# Altium integrated library ST Microcontroller 32-Bit.IntLib: 27 symbols (part 5 of 5)
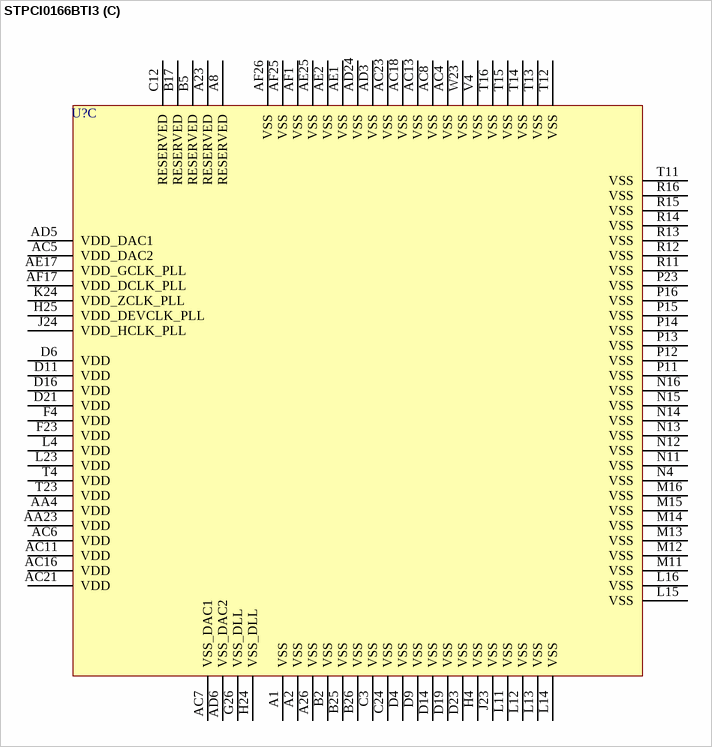
[diagram p67: symbol STPCI0166BTI3]

## STPCI0166BTI3
designator U?
STPCI01 PC Compatible Embedded Microprocessor, 66 MHz Core Speed, 388-Pin PBGA, Industrial; Published: 26-May-2004; LatestRevisionDate: 6-Jun-2005; LatestRevisionNote: Stylized 3D Model Added.; DatasheetDocument: Issue 2.4, 11-Feb-2002; PackageDocument: Oct-2000; PackageReference: PBGA388; Publisher: Altium Limited; ComponentLink1Description: Manufacturer Link; ComponentLink1URL: http://www.st.com/
footprint PBGA388 (BGA, Plastic; 388 Balls; Body 35 x 35 mm; Pitch 1.27 mm)
3D model STPCI01-PBGA388 (BGA, Plastic; 388 Balls; Body 35 x 35 mm; Pitch 1.27 mm)
part A pins: A5 D[13] (io), A6 D[11] (io), A7 D[8] (io), A9 D[3] (io), A10 A[25] (out), A11 A[21] (out), A12 A[19] (out), A13 A[15] (out), A14 A[11] (out), A15 A[7] (out), A16 A[5] (out), A17 A[1] (out), A18 BVD1 (in), A19 VS2# (in), A21 READY# (in), A22 VPP_VCC (power), A24 CD2# (in), A25 INPACK# (in), AA24 MD[23] (io), AA25 MD[21] (io), AA26 MD[24] (io), AB24 MD[19] (io), AB26 MD[20] (io), AC12 MA[1] (out), AC14 MA[5] (out), AC17 RAS#[2] (out), AC19 CAS#[6] (out), AC20 MD[1] (io), AC22 MD[8] (io), AC24 MD[18] (io), AC25 MD[17] (io), AD12 MA[3] (out), AD13 MA[7] (out), AD14 MA[9] (out), AD15 RAS#[0] (out), AD17 CAS#[0] (out), AD18 CAS#[4] (out), AD19 MWE# (out), AD20 MD[3] (io), AD21 MD[6] (io), AD22 MD[10] (io), AD23 MD[12] (io), AD25 MD[15] (io), AD26 MD[16] (io), AE13 MA[0] (out), AE14 MA[4] (out), AE15 MA[8] (out), AE16 MA[11] (out), AE18 RAS#[3] (out), AE19 CAS#[2] (out), AE20 CAS#[5] (out), AE21 MD[0] (io), AE22 MD[4] (io), AE23 MD[7] (io), AE24 MD[11] (io), AE26 MD[14] (io), AF13 MA[2] (out), AF14 MA[6] (out), AF15 MA[10] (out), AF16 RAS#[1] (out), AF18 CAS#[1] (out), AF19 CAS#[3] (out), AF20 CAS#[7] (out), AF21 MD[2] (io), AF22 MD[5] (io), AF23 MD[9] (io), AF24 MD[13] (io), B4 D[15] (io), B6 D[9] (io), B7 D[6] (io), B8 D[4] (io), B9 D[1] (io), B10 A[23] (out), B11 A[20] (out), B12 A[17] (out), B13 A[13] (out), B14 A[9] (out), B15 A[6] (out), B16 A[3] (out), B18 WE# (out), B19 REG# (out), B21 VPP_PGM (power), B22 IORD# (out), B23 CE1# (out), B24 CD1# (in), C6 D[14] (io), C7 D[12] (io), C9 D[5] (io), C10 D[2] (io), C11 A[24] (out), C13 A[18] (out), C14 A[16] (out), C15 A[12] (out), C16 A[8] (out), C17 A[4] (out), C18 A[0] (out), C19 WAIT# (in), C20 VS1# (in), C21 VCC3_EN (power), C22 OE# (out), C23 CE2# (out), C26 BVD2 (in), D7 D[10] (io), D8 D[7] (io), D10 D[0] (io), D12 A[22] (out), D13 A[14] (out), D15 A[10] (out), D17 A[2] (out), D18 RESET (out), D20 VCC5_EN (power), D22 IOWR# (out), D24 WP (in), J25 MD[63] (io), K23 MD[62] (io), K25 MD[59] (io), K26 MD[61] (io), L24 MD[60] (io), L25 MD[55] (io), L26 MD[57] (io), M23 MD[58] (io), M24 MD[56] (io), M25 MD[52] (io), M26 MD[54] (io), N23 MD[49] (io), N24 MD[53] (io), N25 MD[48] (io), N26 MD[50] (io), P24 MD[51] (io), P25 MD[44] (io), P26 MD[46] (io), R23 MD[45] (io), R24 MD[47] (io), R25 MD[41] (io), R26 MD[42] (io), T24 MD[43] (io), T25 MD[38] (io), T26 MD[40] (io), U23 MD[37] (io), U24 MD[39] (io), U25 MD[34] (io), U26 MD[36] (io), V23 MD[29] (io), V24 MD[35] (io), V25 MD[32] (io), V26 MD[33] (io), W24 MD[31] (io), W25 MD[28] (io), W26 MD[30] (io), Y23 MD[22] (io), Y24 MD[27] (io), Y25 MD[25] (io), Y26 MD[26] (io)
part B pins: A3 SYSRSTO# (out), A4 IRQ_MUX[1] (in), A20 ISA_CLK2X (out), AA1 RI2# (in), AA2 TC/SOUT2 (out), AA3 IOW#/ERR# (io), AB1 IOR#/BUSY# (io), AB2 IOCHRDY/SLCT (in), AB3 IOCS16#/INIT# (io), AB4 MCS16#/PDDIR# (io), AB23 XTALO (out), AB25 XTALI (in), AC1 STROBE# (out), AC2 MASTER#/ACK# (in), AC3 AEN/SLCTIN# (out), AC9 G[3] (out), AC10 RESERVED, AC15 GCLK2X (io), AC26 CLK14M (out), AD1 SPKRD (out), AD2 REF#/AUTPFDX# (io), AD4 RED (out), AD7 R[2] (out), AD8 B[4] (out), AD9 G[5] (out), AD10 FPLINE (out), AD11 PWM (out), AD16 DCLK (io), AE3 SDA/DDC[1] (io), AE4 HSYNC (io), AE5 BLUE (out), AE6 RSET (in), AE7 B[2] (out), AE8 B[3] (out), AE9 G[4] (out), AE10 B[5] (out), AE11 FPFRAME (out), AE12 ENAVDD (out), AF2 SCL/DDC[0] (io), AF3 VSYNC (io), AF4 GREEN (out), AF5 VREF_DAC (in), AF6 COMP (in), AF7 G[2] (out), AF8 R[3] (out), AF9 R[4] (out), AF10 R[5] (out), AF11 DE (out), AF12 ENVCC (out), B1 PA[0] (out), B3 IRQ_MUX[3] (in), B20 ISA_CLK (out), C1 LA[20]/PA[20] (out), C2 LA[21]/PA[21] (out), C4 SYSRSTI# (in), C5 IRQ_MUX[2] (in), C8 SCAN_ENABLE (in), C25 PPD[0] (io), D1 SA[17]/PA[17] (out), D2 SA[19]/PA[19] (out), D3 SA[18]/PA[18] (out), D5 IRQ_MUX[0] (in), D25 RTCDS#/PPD[4] (io), D26 RMRTCCS#/PPD[2] (io), E1 SA[13]/PA[13] (out), E2 SA[16]/PA[16] (out), E3 SA[14]/PA[14] (out), E4 SA[15]/PA[15] (out), E23 RTCAS#/PPD[3] (io), E24 ALE/PPD[1] (io), E25 IOCHCK#/PPD[7] (io), E26 PPD[6] (io), F1 SA[9]/PA[9] (out), F2 SA[12]/PA[12] (out), F3 SA[10]/PA[10] (out), F24 RTCRW#/PPD[5] (io), F25 KBCLK (out), F26 KBDATA (in), G1 SA[7]/PA[7] (out), G2 SA[8]/PA[8] (out), G3 SA[6]/PA[6] (out), G4 SA[11]/PA[11] (out), G23 MDATA (in), G24 MCLK (out), G25 PCI_CLKI (in), H1 SA[3]/PA[3] (out), H2 SA[5]/PA[5] (out), H3 SA[2]/PA[2] (out), H23 PCI_CLKO (out), H26 HCLK (io), J1 SD[15]/PD[15] (io), J2 SA[1]/PA[1] (out), J3 SD[13]/PD[13] (io), J4 SA[4]/PA[4] (out), J26 DEV_CLK (out), K1 SD[12]/PD[12] (io), K2 SD[14]/PD[14] (io), K3 SD[9]/PD[9] (io), K4 SD[11]/PD[11] (io), L1 SD[8]/PD[8] (io), L2 SD[10]/PD[10] (io), L3 SD[5]/PD[5] (io), M1 SD[6]/PD[6] (io), M2 SD[7]/PD[7] (io), M3 SD[1]/PD[1] (io), M4 SD[3]/PD[3] (io), N1 SD[2]/PD[2] (io), N2 SD[4]/PD[4] (io), N3 LA[18]/PWR#[1] (out), P1 LA[17]/PWR#[0] (out), P2 SD[0]/PD[0] (io), P3 LA[22]/PRD#[1] (out), P4 SA[0]/PRDY# (io), R1 LA[23]/FCS#[0] (out), R2 LA[19]/PRD#[0] (out), R3 MEMR#/IOCS#[3] (io), R4 SMEMR#/IOCS#[1] (out), T1 MEMW#/IOCS#[2] (io), T2 BHE#/FCS#[1] (out), T3 DCD1#/B[0] (io), U1 DSR1#/G[0] (io), U2 SMEMW#/IOCS#[0] (out), U3 RTS1#/G[1] (out), U4 SIN1/R[0] (io), V1 SOUT1/R[1] (out), V2 CTS1/B[1] (io), V3 DACK_ENC[0]/DCD2# (io), W1 RI1# (in), W2 DTR1# (out), W3 DREQ_MUX[1]/RTS2# (io), W4 DACK_ENC[2]/SIN2 (io), Y1 DREQ_MUX[0]/CTS2# (in), Y2 DACK_ENC[1]/DSR2# (io), Y3 GPIOCS#/PE (io), Y4 DTR2# (out)
part C pins: A1 VSS (power), A2 VSS (power), A8 RESERVED, A23 RESERVED, A26 VSS (power), AA4 VDD (power), AA23 VDD (power), AC4 VSS (power), AC5 VDD_DAC2 (power), AC6 VDD (power), AC7 VSS_DAC1 (power), AC8 VSS (power), AC11 VDD (power), AC13 VSS (power), AC16 VDD (power), AC18 VSS (power), AC21 VDD (power), AC23 VSS (power), AD3 VSS (power), AD5 VDD_DAC1 (power), AD6 VSS_DAC2 (power), AD24 VSS (power), AE1 VSS (power), AE2 VSS (power), AE17 VDD_GCLK_PLL (power), AE25 VSS (power), AF1 VSS (power), AF17 VDD_DCLK_PLL (power), AF25 VSS (power), AF26 VSS (power), B2 VSS (power), B5 RESERVED, B17 RESERVED, B25 VSS (power), B26 VSS (power), C3 VSS (power), C12 RESERVED, C24 VSS (power), D4 VSS (power), D6 VDD (power), D9 VSS (power), D11 VDD (power), D14 VSS (power), D16 VDD (power), D19 VSS (power), D21 VDD (power), D23 VSS (power), F4 VDD (power), F23 VDD (power), G26 VSS_DLL (power), H4 VSS (power), H24 VSS_DLL (power), H25 VDD_DEVCLK_PLL (power), J23 VSS (power), J24 VDD_HCLK_PLL (power), K24 VDD_ZCLK_PLL (power), L4 VDD (power), L11 VSS (power), L12 VSS (power), L13 VSS (power), L14 VSS (power), L15 VSS (power), L16 VSS (power), L23 VDD (power), M11 VSS (power), M12 VSS (power), M13 VSS (power), M14 VSS (power), M15 VSS (power), M16 VSS (power), N4 VSS (power), N11 VSS (power), N12 VSS (power), N13 VSS (power), N14 VSS (power), N15 VSS (power), N16 VSS (power), P11 VSS (power), P12 VSS (power), P13 VSS (power), P14 VSS (power), P15 VSS (power), P16 VSS (power), P23 VSS (power), R11 VSS (power), R12 VSS (power), R13 VSS (power), R14 VSS (power), R15 VSS (power), R16 VSS (power), T4 VDD (power), T11 VSS (power), T12 VSS (power), T13 VSS (power), T14 VSS (power), T15 VSS (power), T16 VSS (power), T23 VDD (power), V4 VSS (power), W23 VSS (power)

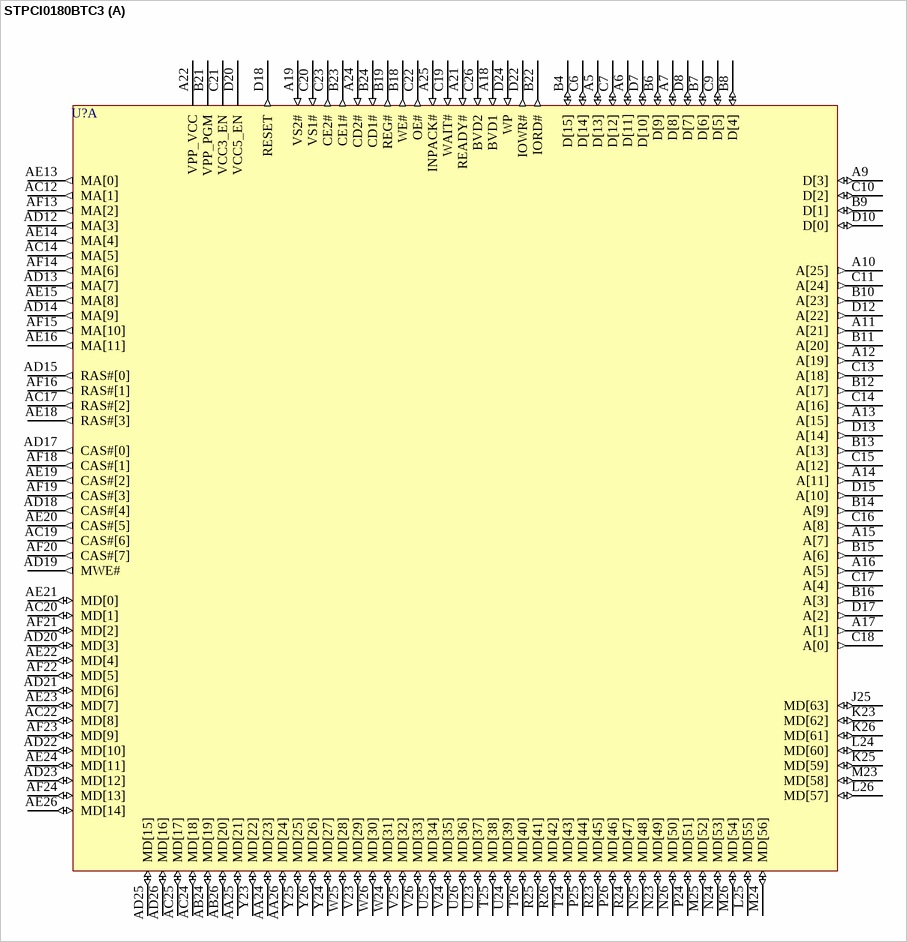
[diagram p58: symbol STPCI0180BTC3]

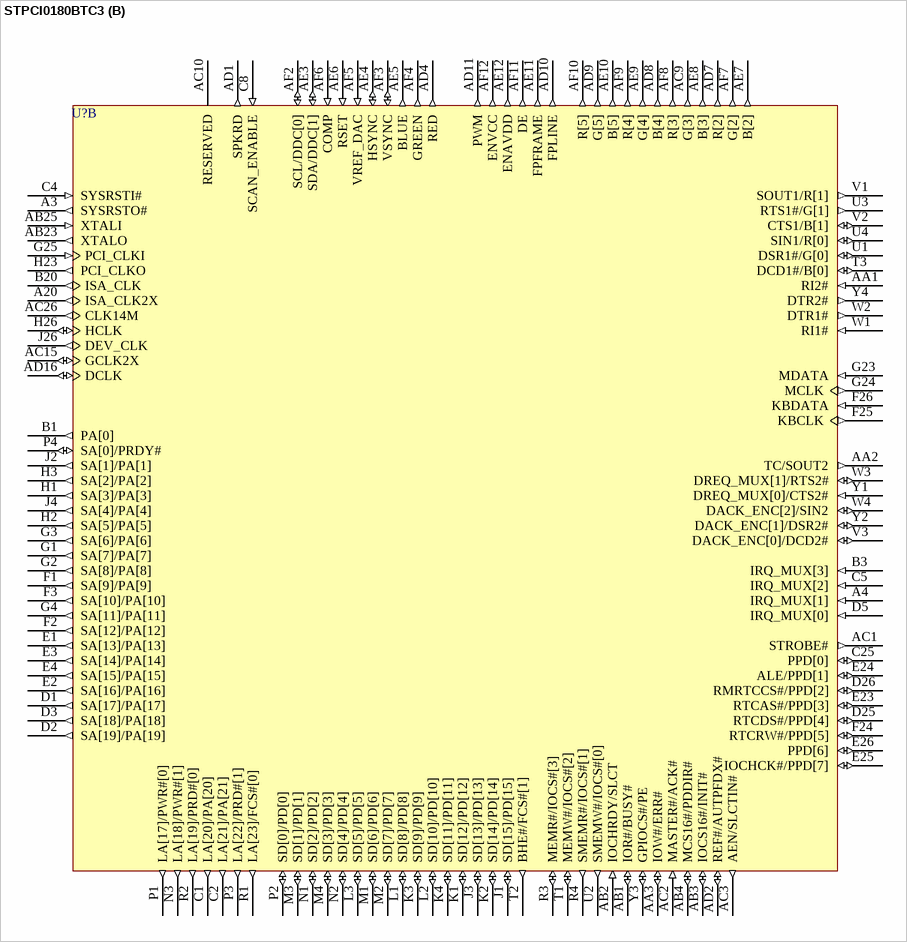
[diagram p59: symbol STPCI0180BTC3]

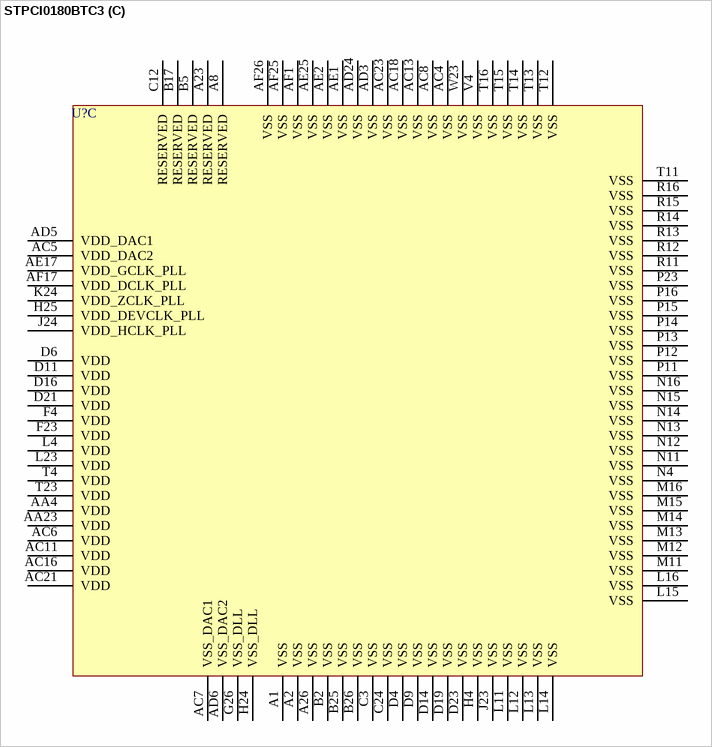
[diagram p60: symbol STPCI0180BTC3]

## STPCI0180BTC3
designator U?
STPCI01 PC Compatible Embedded Microprocessor, 80 MHz Core Speed, 388-Pin PBGA, Commercial; Published: 26-May-2004; LatestRevisionDate: 6-Jun-2005; LatestRevisionNote: Stylized 3D Model Added.; DatasheetDocument: Issue 2.4, 11-Feb-2002; PackageDocument: Oct-2000; PackageReference: PBGA388; Publisher: Altium Limited; ComponentLink1Description: Manufacturer Link; ComponentLink1URL: http://www.st.com/
footprint PBGA388 (BGA, Plastic; 388 Balls; Body 35 x 35 mm; Pitch 1.27 mm)
3D model STPCI01-PBGA388 (BGA, Plastic; 388 Balls; Body 35 x 35 mm; Pitch 1.27 mm)
part A pins: A5 D[13] (io), A6 D[11] (io), A7 D[8] (io), A9 D[3] (io), A10 A[25] (out), A11 A[21] (out), A12 A[19] (out), A13 A[15] (out), A14 A[11] (out), A15 A[7] (out), A16 A[5] (out), A17 A[1] (out), A18 BVD1 (in), A19 VS2# (in), A21 READY# (in), A22 VPP_VCC (power), A24 CD2# (in), A25 INPACK# (in), AA24 MD[23] (io), AA25 MD[21] (io), AA26 MD[24] (io), AB24 MD[19] (io), AB26 MD[20] (io), AC12 MA[1] (out), AC14 MA[5] (out), AC17 RAS#[2] (out), AC19 CAS#[6] (out), AC20 MD[1] (io), AC22 MD[8] (io), AC24 MD[18] (io), AC25 MD[17] (io), AD12 MA[3] (out), AD13 MA[7] (out), AD14 MA[9] (out), AD15 RAS#[0] (out), AD17 CAS#[0] (out), AD18 CAS#[4] (out), AD19 MWE# (out), AD20 MD[3] (io), AD21 MD[6] (io), AD22 MD[10] (io), AD23 MD[12] (io), AD25 MD[15] (io), AD26 MD[16] (io), AE13 MA[0] (out), AE14 MA[4] (out), AE15 MA[8] (out), AE16 MA[11] (out), AE18 RAS#[3] (out), AE19 CAS#[2] (out), AE20 CAS#[5] (out), AE21 MD[0] (io), AE22 MD[4] (io), AE23 MD[7] (io), AE24 MD[11] (io), AE26 MD[14] (io), AF13 MA[2] (out), AF14 MA[6] (out), AF15 MA[10] (out), AF16 RAS#[1] (out), AF18 CAS#[1] (out), AF19 CAS#[3] (out), AF20 CAS#[7] (out), AF21 MD[2] (io), AF22 MD[5] (io), AF23 MD[9] (io), AF24 MD[13] (io), B4 D[15] (io), B6 D[9] (io), B7 D[6] (io), B8 D[4] (io), B9 D[1] (io), B10 A[23] (out), B11 A[20] (out), B12 A[17] (out), B13 A[13] (out), B14 A[9] (out), B15 A[6] (out), B16 A[3] (out), B18 WE# (out), B19 REG# (out), B21 VPP_PGM (power), B22 IORD# (out), B23 CE1# (out), B24 CD1# (in), C6 D[14] (io), C7 D[12] (io), C9 D[5] (io), C10 D[2] (io), C11 A[24] (out), C13 A[18] (out), C14 A[16] (out), C15 A[12] (out), C16 A[8] (out), C17 A[4] (out), C18 A[0] (out), C19 WAIT# (in), C20 VS1# (in), C21 VCC3_EN (power), C22 OE# (out), C23 CE2# (out), C26 BVD2 (in), D7 D[10] (io), D8 D[7] (io), D10 D[0] (io), D12 A[22] (out), D13 A[14] (out), D15 A[10] (out), D17 A[2] (out), D18 RESET (out), D20 VCC5_EN (power), D22 IOWR# (out), D24 WP (in), J25 MD[63] (io), K23 MD[62] (io), K25 MD[59] (io), K26 MD[61] (io), L24 MD[60] (io), L25 MD[55] (io), L26 MD[57] (io), M23 MD[58] (io), M24 MD[56] (io), M25 MD[52] (io), M26 MD[54] (io), N23 MD[49] (io), N24 MD[53] (io), N25 MD[48] (io), N26 MD[50] (io), P24 MD[51] (io), P25 MD[44] (io), P26 MD[46] (io), R23 MD[45] (io), R24 MD[47] (io), R25 MD[41] (io), R26 MD[42] (io), T24 MD[43] (io), T25 MD[38] (io), T26 MD[40] (io), U23 MD[37] (io), U24 MD[39] (io), U25 MD[34] (io), U26 MD[36] (io), V23 MD[29] (io), V24 MD[35] (io), V25 MD[32] (io), V26 MD[33] (io), W24 MD[31] (io), W25 MD[28] (io), W26 MD[30] (io), Y23 MD[22] (io), Y24 MD[27] (io), Y25 MD[25] (io), Y26 MD[26] (io)
part B pins: A3 SYSRSTO# (out), A4 IRQ_MUX[1] (in), A20 ISA_CLK2X (out), AA1 RI2# (in), AA2 TC/SOUT2 (out), AA3 IOW#/ERR# (io), AB1 IOR#/BUSY# (io), AB2 IOCHRDY/SLCT (in), AB3 IOCS16#/INIT# (io), AB4 MCS16#/PDDIR# (io), AB23 XTALO (out), AB25 XTALI (in), AC1 STROBE# (out), AC2 MASTER#/ACK# (in), AC3 AEN/SLCTIN# (out), AC9 G[3] (out), AC10 RESERVED, AC15 GCLK2X (io), AC26 CLK14M (out), AD1 SPKRD (out), AD2 REF#/AUTPFDX# (io), AD4 RED (out), AD7 R[2] (out), AD8 B[4] (out), AD9 G[5] (out), AD10 FPLINE (out), AD11 PWM (out), AD16 DCLK (io), AE3 SDA/DDC[1] (io), AE4 HSYNC (io), AE5 BLUE (out), AE6 RSET (in), AE7 B[2] (out), AE8 B[3] (out), AE9 G[4] (out), AE10 B[5] (out), AE11 FPFRAME (out), AE12 ENAVDD (out), AF2 SCL/DDC[0] (io), AF3 VSYNC (io), AF4 GREEN (out), AF5 VREF_DAC (in), AF6 COMP (in), AF7 G[2] (out), AF8 R[3] (out), AF9 R[4] (out), AF10 R[5] (out), AF11 DE (out), AF12 ENVCC (out), B1 PA[0] (out), B3 IRQ_MUX[3] (in), B20 ISA_CLK (out), C1 LA[20]/PA[20] (out), C2 LA[21]/PA[21] (out), C4 SYSRSTI# (in), C5 IRQ_MUX[2] (in), C8 SCAN_ENABLE (in), C25 PPD[0] (io), D1 SA[17]/PA[17] (out), D2 SA[19]/PA[19] (out), D3 SA[18]/PA[18] (out), D5 IRQ_MUX[0] (in), D25 RTCDS#/PPD[4] (io), D26 RMRTCCS#/PPD[2] (io), E1 SA[13]/PA[13] (out), E2 SA[16]/PA[16] (out), E3 SA[14]/PA[14] (out), E4 SA[15]/PA[15] (out), E23 RTCAS#/PPD[3] (io), E24 ALE/PPD[1] (io), E25 IOCHCK#/PPD[7] (io), E26 PPD[6] (io), F1 SA[9]/PA[9] (out), F2 SA[12]/PA[12] (out), F3 SA[10]/PA[10] (out), F24 RTCRW#/PPD[5] (io), F25 KBCLK (out), F26 KBDATA (in), G1 SA[7]/PA[7] (out), G2 SA[8]/PA[8] (out), G3 SA[6]/PA[6] (out), G4 SA[11]/PA[11] (out), G23 MDATA (in), G24 MCLK (out), G25 PCI_CLKI (in), H1 SA[3]/PA[3] (out), H2 SA[5]/PA[5] (out), H3 SA[2]/PA[2] (out), H23 PCI_CLKO (out), H26 HCLK (io), J1 SD[15]/PD[15] (io), J2 SA[1]/PA[1] (out), J3 SD[13]/PD[13] (io), J4 SA[4]/PA[4] (out), J26 DEV_CLK (out), K1 SD[12]/PD[12] (io), K2 SD[14]/PD[14] (io), K3 SD[9]/PD[9] (io), K4 SD[11]/PD[11] (io), L1 SD[8]/PD[8] (io), L2 SD[10]/PD[10] (io), L3 SD[5]/PD[5] (io), M1 SD[6]/PD[6] (io), M2 SD[7]/PD[7] (io), M3 SD[1]/PD[1] (io), M4 SD[3]/PD[3] (io), N1 SD[2]/PD[2] (io), N2 SD[4]/PD[4] (io), N3 LA[18]/PWR#[1] (out), P1 LA[17]/PWR#[0] (out), P2 SD[0]/PD[0] (io), P3 LA[22]/PRD#[1] (out), P4 SA[0]/PRDY# (io), R1 LA[23]/FCS#[0] (out), R2 LA[19]/PRD#[0] (out), R3 MEMR#/IOCS#[3] (io), R4 SMEMR#/IOCS#[1] (out), T1 MEMW#/IOCS#[2] (io), T2 BHE#/FCS#[1] (out), T3 DCD1#/B[0] (io), U1 DSR1#/G[0] (io), U2 SMEMW#/IOCS#[0] (out), U3 RTS1#/G[1] (out), U4 SIN1/R[0] (io), V1 SOUT1/R[1] (out), V2 CTS1/B[1] (io), V3 DACK_ENC[0]/DCD2# (io), W1 RI1# (in), W2 DTR1# (out), W3 DREQ_MUX[1]/RTS2# (io), W4 DACK_ENC[2]/SIN2 (io), Y1 DREQ_MUX[0]/CTS2# (in), Y2 DACK_ENC[1]/DSR2# (io), Y3 GPIOCS#/PE (io), Y4 DTR2# (out)
part C pins: A1 VSS (power), A2 VSS (power), A8 RESERVED, A23 RESERVED, A26 VSS (power), AA4 VDD (power), AA23 VDD (power), AC4 VSS (power), AC5 VDD_DAC2 (power), AC6 VDD (power), AC7 VSS_DAC1 (power), AC8 VSS (power), AC11 VDD (power), AC13 VSS (power), AC16 VDD (power), AC18 VSS (power), AC21 VDD (power), AC23 VSS (power), AD3 VSS (power), AD5 VDD_DAC1 (power), AD6 VSS_DAC2 (power), AD24 VSS (power), AE1 VSS (power), AE2 VSS (power), AE17 VDD_GCLK_PLL (power), AE25 VSS (power), AF1 VSS (power), AF17 VDD_DCLK_PLL (power), AF25 VSS (power), AF26 VSS (power), B2 VSS (power), B5 RESERVED, B17 RESERVED, B25 VSS (power), B26 VSS (power), C3 VSS (power), C12 RESERVED, C24 VSS (power), D4 VSS (power), D6 VDD (power), D9 VSS (power), D11 VDD (power), D14 VSS (power), D16 VDD (power), D19 VSS (power), D21 VDD (power), D23 VSS (power), F4 VDD (power), F23 VDD (power), G26 VSS_DLL (power), H4 VSS (power), H24 VSS_DLL (power), H25 VDD_DEVCLK_PLL (power), J23 VSS (power), J24 VDD_HCLK_PLL (power), K24 VDD_ZCLK_PLL (power), L4 VDD (power), L11 VSS (power), L12 VSS (power), L13 VSS (power), L14 VSS (power), L15 VSS (power), L16 VSS (power), L23 VDD (power), M11 VSS (power), M12 VSS (power), M13 VSS (power), M14 VSS (power), M15 VSS (power), M16 VSS (power), N4 VSS (power), N11 VSS (power), N12 VSS (power), N13 VSS (power), N14 VSS (power), N15 VSS (power), N16 VSS (power), P11 VSS (power), P12 VSS (power), P13 VSS (power), P14 VSS (power), P15 VSS (power), P16 VSS (power), P23 VSS (power), R11 VSS (power), R12 VSS (power), R13 VSS (power), R14 VSS (power), R15 VSS (power), R16 VSS (power), T4 VDD (power), T11 VSS (power), T12 VSS (power), T13 VSS (power), T14 VSS (power), T15 VSS (power), T16 VSS (power), T23 VDD (power), V4 VSS (power), W23 VSS (power)

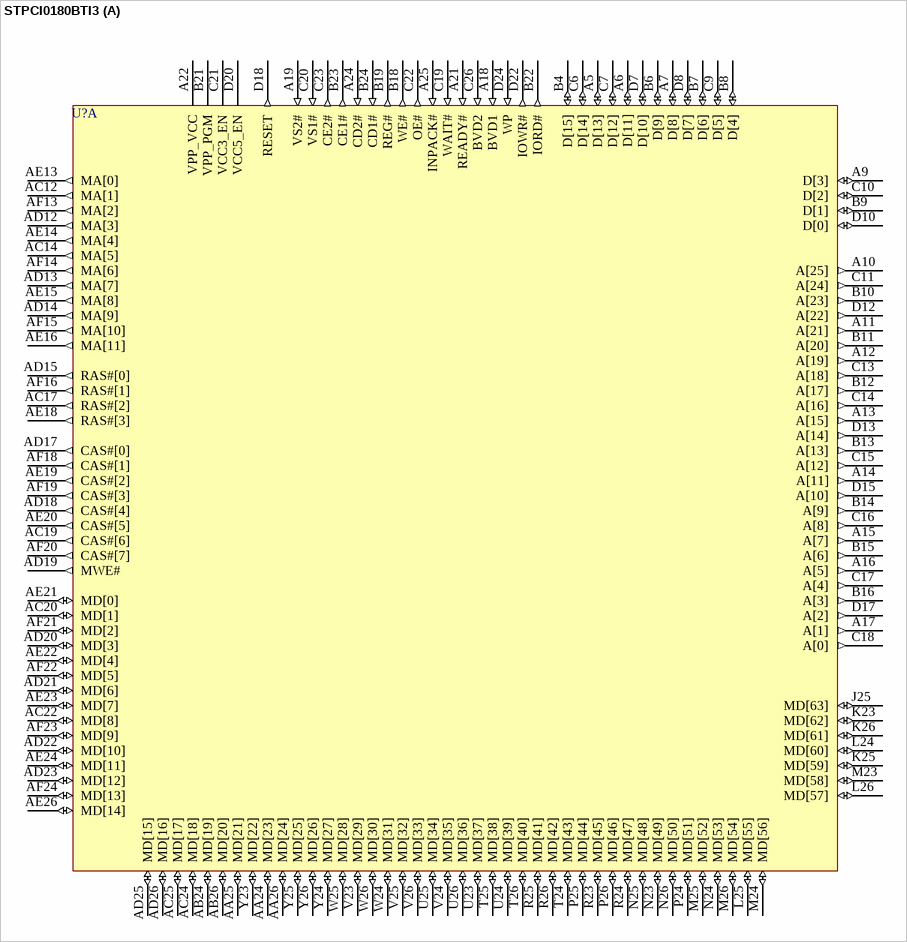
[diagram p61: symbol STPCI0180BTI3]

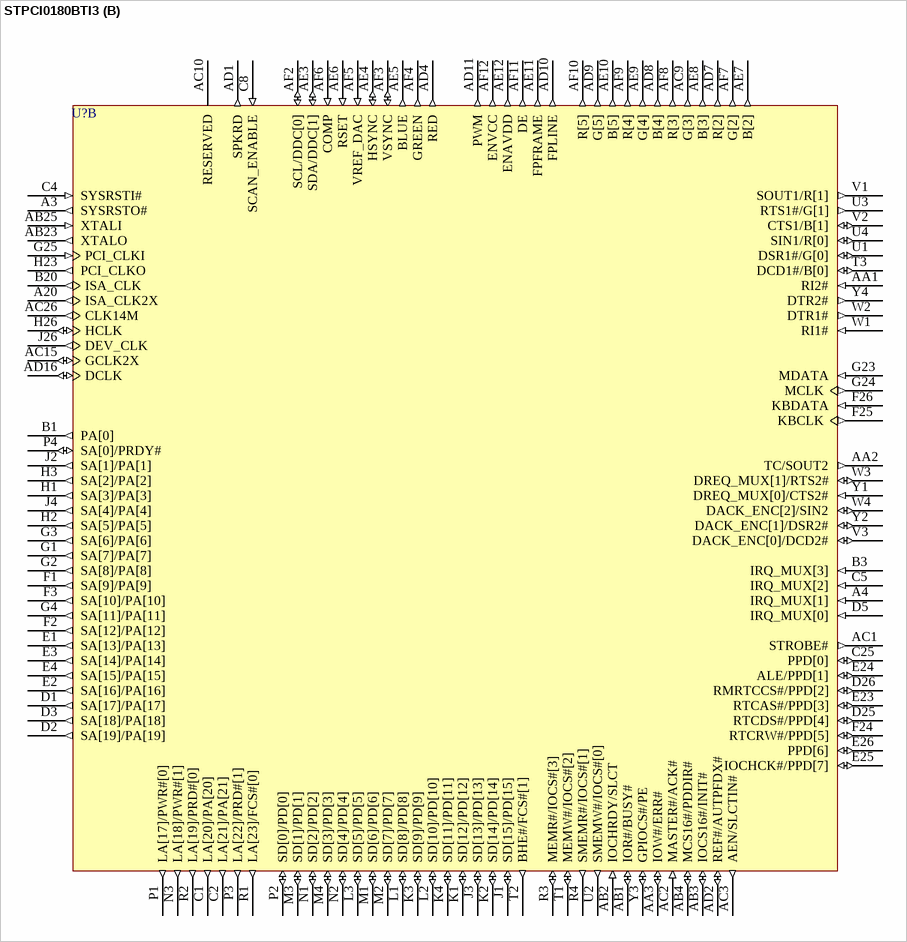
[diagram p62: symbol STPCI0180BTI3]

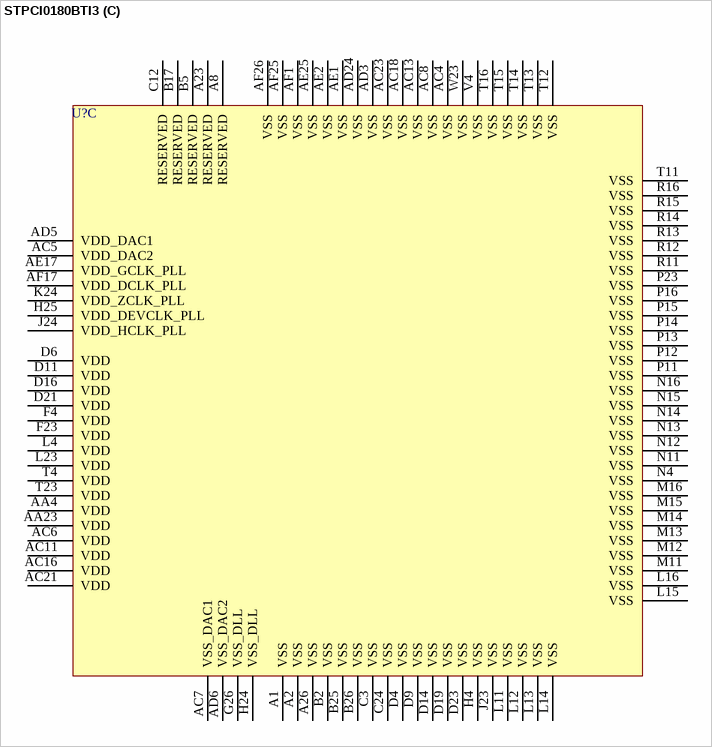
[diagram p63: symbol STPCI0180BTI3]

## STPCI0180BTI3
designator U?
STPCI01 PC Compatible Embedded Microprocessor, 80 MHz Core Speed, 388-Pin PBGA, Industrial; Published: 26-May-2004; LatestRevisionDate: 6-Jun-2005; LatestRevisionNote: Stylized 3D Model Added.; DatasheetDocument: Issue 2.4, 11-Feb-2002; PackageDocument: Oct-2000; PackageReference: PBGA388; Publisher: Altium Limited; ComponentLink1Description: Manufacturer Link; ComponentLink1URL: http://www.st.com/
footprint PBGA388 (BGA, Plastic; 388 Balls; Body 35 x 35 mm; Pitch 1.27 mm)
3D model STPCI01-PBGA388 (BGA, Plastic; 388 Balls; Body 35 x 35 mm; Pitch 1.27 mm)
part A pins: A5 D[13] (io), A6 D[11] (io), A7 D[8] (io), A9 D[3] (io), A10 A[25] (out), A11 A[21] (out), A12 A[19] (out), A13 A[15] (out), A14 A[11] (out), A15 A[7] (out), A16 A[5] (out), A17 A[1] (out), A18 BVD1 (in), A19 VS2# (in), A21 READY# (in), A22 VPP_VCC (power), A24 CD2# (in), A25 INPACK# (in), AA24 MD[23] (io), AA25 MD[21] (io), AA26 MD[24] (io), AB24 MD[19] (io), AB26 MD[20] (io), AC12 MA[1] (out), AC14 MA[5] (out), AC17 RAS#[2] (out), AC19 CAS#[6] (out), AC20 MD[1] (io), AC22 MD[8] (io), AC24 MD[18] (io), AC25 MD[17] (io), AD12 MA[3] (out), AD13 MA[7] (out), AD14 MA[9] (out), AD15 RAS#[0] (out), AD17 CAS#[0] (out), AD18 CAS#[4] (out), AD19 MWE# (out), AD20 MD[3] (io), AD21 MD[6] (io), AD22 MD[10] (io), AD23 MD[12] (io), AD25 MD[15] (io), AD26 MD[16] (io), AE13 MA[0] (out), AE14 MA[4] (out), AE15 MA[8] (out), AE16 MA[11] (out), AE18 RAS#[3] (out), AE19 CAS#[2] (out), AE20 CAS#[5] (out), AE21 MD[0] (io), AE22 MD[4] (io), AE23 MD[7] (io), AE24 MD[11] (io), AE26 MD[14] (io), AF13 MA[2] (out), AF14 MA[6] (out), AF15 MA[10] (out), AF16 RAS#[1] (out), AF18 CAS#[1] (out), AF19 CAS#[3] (out), AF20 CAS#[7] (out), AF21 MD[2] (io), AF22 MD[5] (io), AF23 MD[9] (io), AF24 MD[13] (io), B4 D[15] (io), B6 D[9] (io), B7 D[6] (io), B8 D[4] (io), B9 D[1] (io), B10 A[23] (out), B11 A[20] (out), B12 A[17] (out), B13 A[13] (out), B14 A[9] (out), B15 A[6] (out), B16 A[3] (out), B18 WE# (out), B19 REG# (out), B21 VPP_PGM (power), B22 IORD# (out), B23 CE1# (out), B24 CD1# (in), C6 D[14] (io), C7 D[12] (io), C9 D[5] (io), C10 D[2] (io), C11 A[24] (out), C13 A[18] (out), C14 A[16] (out), C15 A[12] (out), C16 A[8] (out), C17 A[4] (out), C18 A[0] (out), C19 WAIT# (in), C20 VS1# (in), C21 VCC3_EN (power), C22 OE# (out), C23 CE2# (out), C26 BVD2 (in), D7 D[10] (io), D8 D[7] (io), D10 D[0] (io), D12 A[22] (out), D13 A[14] (out), D15 A[10] (out), D17 A[2] (out), D18 RESET (out), D20 VCC5_EN (power), D22 IOWR# (out), D24 WP (in), J25 MD[63] (io), K23 MD[62] (io), K25 MD[59] (io), K26 MD[61] (io), L24 MD[60] (io), L25 MD[55] (io), L26 MD[57] (io), M23 MD[58] (io), M24 MD[56] (io), M25 MD[52] (io), M26 MD[54] (io), N23 MD[49] (io), N24 MD[53] (io), N25 MD[48] (io), N26 MD[50] (io), P24 MD[51] (io), P25 MD[44] (io), P26 MD[46] (io), R23 MD[45] (io), R24 MD[47] (io), R25 MD[41] (io), R26 MD[42] (io), T24 MD[43] (io), T25 MD[38] (io), T26 MD[40] (io), U23 MD[37] (io), U24 MD[39] (io), U25 MD[34] (io), U26 MD[36] (io), V23 MD[29] (io), V24 MD[35] (io), V25 MD[32] (io), V26 MD[33] (io), W24 MD[31] (io), W25 MD[28] (io), W26 MD[30] (io), Y23 MD[22] (io), Y24 MD[27] (io), Y25 MD[25] (io), Y26 MD[26] (io)
part B pins: A3 SYSRSTO# (out), A4 IRQ_MUX[1] (in), A20 ISA_CLK2X (out), AA1 RI2# (in), AA2 TC/SOUT2 (out), AA3 IOW#/ERR# (io), AB1 IOR#/BUSY# (io), AB2 IOCHRDY/SLCT (in), AB3 IOCS16#/INIT# (io), AB4 MCS16#/PDDIR# (io), AB23 XTALO (out), AB25 XTALI (in), AC1 STROBE# (out), AC2 MASTER#/ACK# (in), AC3 AEN/SLCTIN# (out), AC9 G[3] (out), AC10 RESERVED, AC15 GCLK2X (io), AC26 CLK14M (out), AD1 SPKRD (out), AD2 REF#/AUTPFDX# (io), AD4 RED (out), AD7 R[2] (out), AD8 B[4] (out), AD9 G[5] (out), AD10 FPLINE (out), AD11 PWM (out), AD16 DCLK (io), AE3 SDA/DDC[1] (io), AE4 HSYNC (io), AE5 BLUE (out), AE6 RSET (in), AE7 B[2] (out), AE8 B[3] (out), AE9 G[4] (out), AE10 B[5] (out), AE11 FPFRAME (out), AE12 ENAVDD (out), AF2 SCL/DDC[0] (io), AF3 VSYNC (io), AF4 GREEN (out), AF5 VREF_DAC (in), AF6 COMP (in), AF7 G[2] (out), AF8 R[3] (out), AF9 R[4] (out), AF10 R[5] (out), AF11 DE (out), AF12 ENVCC (out), B1 PA[0] (out), B3 IRQ_MUX[3] (in), B20 ISA_CLK (out), C1 LA[20]/PA[20] (out), C2 LA[21]/PA[21] (out), C4 SYSRSTI# (in), C5 IRQ_MUX[2] (in), C8 SCAN_ENABLE (in), C25 PPD[0] (io), D1 SA[17]/PA[17] (out), D2 SA[19]/PA[19] (out), D3 SA[18]/PA[18] (out), D5 IRQ_MUX[0] (in), D25 RTCDS#/PPD[4] (io), D26 RMRTCCS#/PPD[2] (io), E1 SA[13]/PA[13] (out), E2 SA[16]/PA[16] (out), E3 SA[14]/PA[14] (out), E4 SA[15]/PA[15] (out), E23 RTCAS#/PPD[3] (io), E24 ALE/PPD[1] (io), E25 IOCHCK#/PPD[7] (io), E26 PPD[6] (io), F1 SA[9]/PA[9] (out), F2 SA[12]/PA[12] (out), F3 SA[10]/PA[10] (out), F24 RTCRW#/PPD[5] (io), F25 KBCLK (out), F26 KBDATA (in), G1 SA[7]/PA[7] (out), G2 SA[8]/PA[8] (out), G3 SA[6]/PA[6] (out), G4 SA[11]/PA[11] (out), G23 MDATA (in), G24 MCLK (out), G25 PCI_CLKI (in), H1 SA[3]/PA[3] (out), H2 SA[5]/PA[5] (out), H3 SA[2]/PA[2] (out), H23 PCI_CLKO (out), H26 HCLK (io), J1 SD[15]/PD[15] (io), J2 SA[1]/PA[1] (out), J3 SD[13]/PD[13] (io), J4 SA[4]/PA[4] (out), J26 DEV_CLK (out), K1 SD[12]/PD[12] (io), K2 SD[14]/PD[14] (io), K3 SD[9]/PD[9] (io), K4 SD[11]/PD[11] (io), L1 SD[8]/PD[8] (io), L2 SD[10]/PD[10] (io), L3 SD[5]/PD[5] (io), M1 SD[6]/PD[6] (io), M2 SD[7]/PD[7] (io), M3 SD[1]/PD[1] (io), M4 SD[3]/PD[3] (io), N1 SD[2]/PD[2] (io), N2 SD[4]/PD[4] (io), N3 LA[18]/PWR#[1] (out), P1 LA[17]/PWR#[0] (out), P2 SD[0]/PD[0] (io), P3 LA[22]/PRD#[1] (out), P4 SA[0]/PRDY# (io), R1 LA[23]/FCS#[0] (out), R2 LA[19]/PRD#[0] (out), R3 MEMR#/IOCS#[3] (io), R4 SMEMR#/IOCS#[1] (out), T1 MEMW#/IOCS#[2] (io), T2 BHE#/FCS#[1] (out), T3 DCD1#/B[0] (io), U1 DSR1#/G[0] (io), U2 SMEMW#/IOCS#[0] (out), U3 RTS1#/G[1] (out), U4 SIN1/R[0] (io), V1 SOUT1/R[1] (out), V2 CTS1/B[1] (io), V3 DACK_ENC[0]/DCD2# (io), W1 RI1# (in), W2 DTR1# (out), W3 DREQ_MUX[1]/RTS2# (io), W4 DACK_ENC[2]/SIN2 (io), Y1 DREQ_MUX[0]/CTS2# (in), Y2 DACK_ENC[1]/DSR2# (io), Y3 GPIOCS#/PE (io), Y4 DTR2# (out)
part C pins: A1 VSS (power), A2 VSS (power), A8 RESERVED, A23 RESERVED, A26 VSS (power), AA4 VDD (power), AA23 VDD (power), AC4 VSS (power), AC5 VDD_DAC2 (power), AC6 VDD (power), AC7 VSS_DAC1 (power), AC8 VSS (power), AC11 VDD (power), AC13 VSS (power), AC16 VDD (power), AC18 VSS (power), AC21 VDD (power), AC23 VSS (power), AD3 VSS (power), AD5 VDD_DAC1 (power), AD6 VSS_DAC2 (power), AD24 VSS (power), AE1 VSS (power), AE2 VSS (power), AE17 VDD_GCLK_PLL (power), AE25 VSS (power), AF1 VSS (power), AF17 VDD_DCLK_PLL (power), AF25 VSS (power), AF26 VSS (power), B2 VSS (power), B5 RESERVED, B17 RESERVED, B25 VSS (power), B26 VSS (power), C3 VSS (power), C12 RESERVED, C24 VSS (power), D4 VSS (power), D6 VDD (power), D9 VSS (power), D11 VDD (power), D14 VSS (power), D16 VDD (power), D19 VSS (power), D21 VDD (power), D23 VSS (power), F4 VDD (power), F23 VDD (power), G26 VSS_DLL (power), H4 VSS (power), H24 VSS_DLL (power), H25 VDD_DEVCLK_PLL (power), J23 VSS (power), J24 VDD_HCLK_PLL (power), K24 VDD_ZCLK_PLL (power), L4 VDD (power), L11 VSS (power), L12 VSS (power), L13 VSS (power), L14 VSS (power), L15 VSS (power), L16 VSS (power), L23 VDD (power), M11 VSS (power), M12 VSS (power), M13 VSS (power), M14 VSS (power), M15 VSS (power), M16 VSS (power), N4 VSS (power), N11 VSS (power), N12 VSS (power), N13 VSS (power), N14 VSS (power), N15 VSS (power), N16 VSS (power), P11 VSS (power), P12 VSS (power), P13 VSS (power), P14 VSS (power), P15 VSS (power), P16 VSS (power), P23 VSS (power), R11 VSS (power), R12 VSS (power), R13 VSS (power), R14 VSS (power), R15 VSS (power), R16 VSS (power), T4 VDD (power), T11 VSS (power), T12 VSS (power), T13 VSS (power), T14 VSS (power), T15 VSS (power), T16 VSS (power), T23 VDD (power), V4 VSS (power), W23 VSS (power)